# EAGLE library part π142X3X (library π14XX3X)
Check availability <https://pricing.snapeda.com/parts/ISO7240CDWR/Texas%20Instruments/view-part?ref=eda>
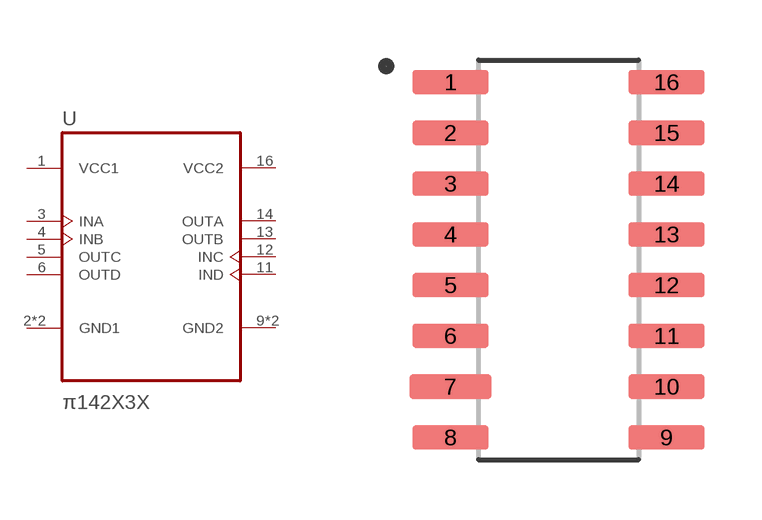
[diagram p1: symbol with the pads of SOIC-16; footprint SOIC-16]

Designator prefix U

## π142X3X (AVAILABILITY: In Stock; DESCRIPTION: Quad-channel, 4/0, 25-Mbps digital isolator; MF: Texas Instruments; MP: ISO7240CDWR; PACKAGE: SOIC-16 Texas Instruments; PRICE: None; PURCHASE-URL: https://pricing.snapeda.com/search/part/ISO7240CDWR/?ref=eda)  [SOIC-16]
1  VCC1  pwr
2  GND1  pwr
3  INA  in
4  INB  in
5  OUTC  out
6  OUTD  out
8  GND1  pwr
9  GND2  pwr
11  IND  in
12  INC  in
13  OUTB  out
14  OUTA  out
15  GND2  pwr
16  VCC2  pwr

## Footprint SOIC-16 (pad centres in mm)
smd 1.9 x 0.6: 1 -2.7,4.445; 2 -2.7,3.175; 3 -2.7,1.905; 4 -2.7,0.635; 5 -2.7,-0.635; 6 -2.7,-1.905; 8 -2.7,-4.445; 9 2.7,-4.445; 10 2.7,-3.175; 11 2.7,-1.905; 12 2.7,-0.635; 13 2.7,0.635; 14 2.7,1.905; 15 2.7,3.175; 16 2.7,4.445
smd 2.06 x 0.6: 7 -2.7,-3.175